# EAGLE library part 251715-SOCKET (library 251715-socket)
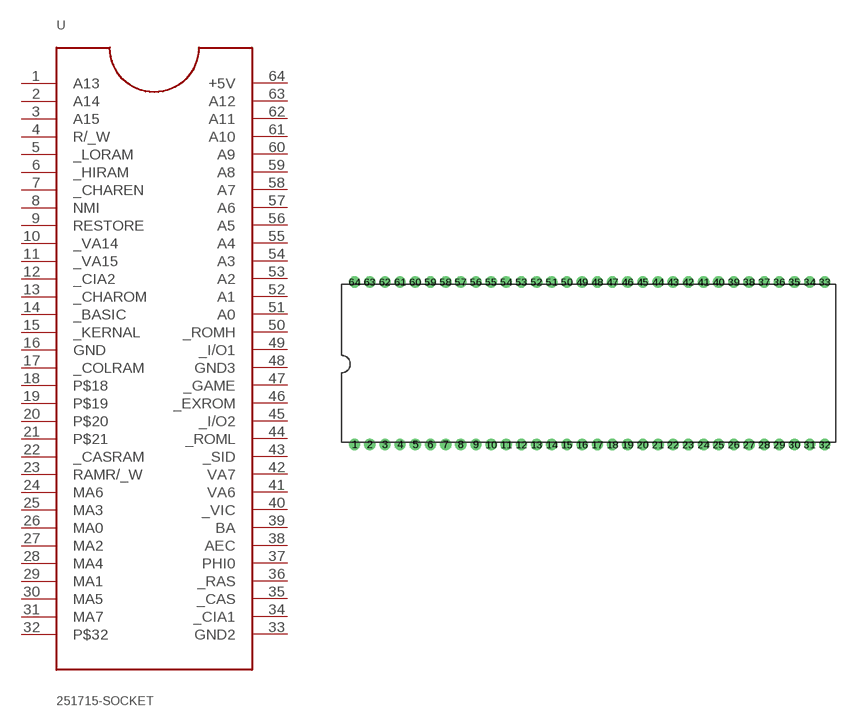
[diagram p0: symbol with the pads of 64-SPDIP; footprint 64-SPDIP]

Designator prefix -

## 251715-SOCKET  [64-SPDIP]
1  A13
2  A14
3  A15
4  R/_W
5  _LORAM
6  _HIRAM
7  _CHAREN
8  NMI
9  RESTORE
10  _VA14
11  _VA15
12  _CIA2
13  _CHAROM
14  _BASIC
15  _KERNAL
16  GND
17  _COLRAM
18  P$18
19  P$19
20  P$20
21  P$21
22  _CASRAM
23  RAMR/_W
24  MA6
25  MA3
26  MA0
27  MA2
28  MA4
29  MA1
30  MA5
31  MA7
32  P$32
33  GND2
34  _CIA1
35  _CAS
36  _RAS
37  PHI0
38  AEC
39  BA
40  _VIC
41  VA6
42  VA7
43  _SID
44  _ROML
45  _I/O2
46  _EXROM
47  _GAME
48  GND3
49  _I/O1
50  _ROMH
51  A0
52  A1
53  A2
54  A3
55  A4
56  A5
57  A6
58  A7
59  A8
60  A9
61  A10
62  A11
63  A12
64  +5V

## Footprint 64-SPDIP (pad centres in mm)
Dual In Line
drill 0.813 round: 1 -28.956,-10.668; 2 -27.178,-10.668; 3 -25.4,-10.668; 4 -23.622,-10.668; 5 -21.844,-10.668; 6 -20.066,-10.668; 7 -18.288,-10.668; 8 -16.51,-10.668; 9 -14.732,-10.668; 10 -12.954,-10.668; 11 -11.176,-10.668; 12 -9.398,-10.668; 13 -7.62,-10.668; 14 -5.842,-10.668; 15 -4.064,-10.668; 16 -2.286,-10.668; 17 -0.508,-10.668; 18 1.27,-10.668; 19 3.048,-10.668; 20 4.826,-10.668; 21 6.604,-10.668; 22 8.382,-10.668; 23 10.16,-10.668; 24 11.938,-10.668; 25 13.716,-10.668; 26 15.494,-10.668; 27 17.272,-10.668; 28 19.05,-10.668; 29 20.828,-10.668; 30 22.606,-10.668; 31 24.384,-10.668; 32 26.162,-10.668; 33 26.162,8.382; 34 24.384,8.382; 35 22.606,8.382; 36 20.828,8.382; 37 19.05,8.382; 38 17.272,8.382; 39 15.494,8.382; 40 13.716,8.382; 41 11.938,8.382; 42 10.16,8.382; 43 8.382,8.382; 44 6.604,8.382; 45 4.826,8.382; 46 3.048,8.382; 47 1.27,8.382; 48 -0.508,8.382; 49 -2.286,8.382; 50 -4.064,8.382; 51 -5.842,8.382; 52 -7.62,8.382; 53 -9.398,8.382; 54 -11.176,8.382; 55 -12.954,8.382; 56 -14.732,8.382; 57 -16.51,8.382; 58 -18.288,8.382; 59 -20.066,8.382; 60 -21.844,8.382; 61 -23.622,8.382; 62 -25.4,8.382; 63 -27.178,8.382; 64 -28.956,8.382